# Altium footprint library EMI PCB Shields .PcbLib: 3 footprints
Each footprint in its own frame and in the unit in brackets; x right, y up, seen from the top. Pads: shape width x height; smd on the part's side, far side on the other; paste and mask are expansions set on the pad; w line width, h text height; cw(c..) or ccw(c..) is an arc to the next point about the centre after c.
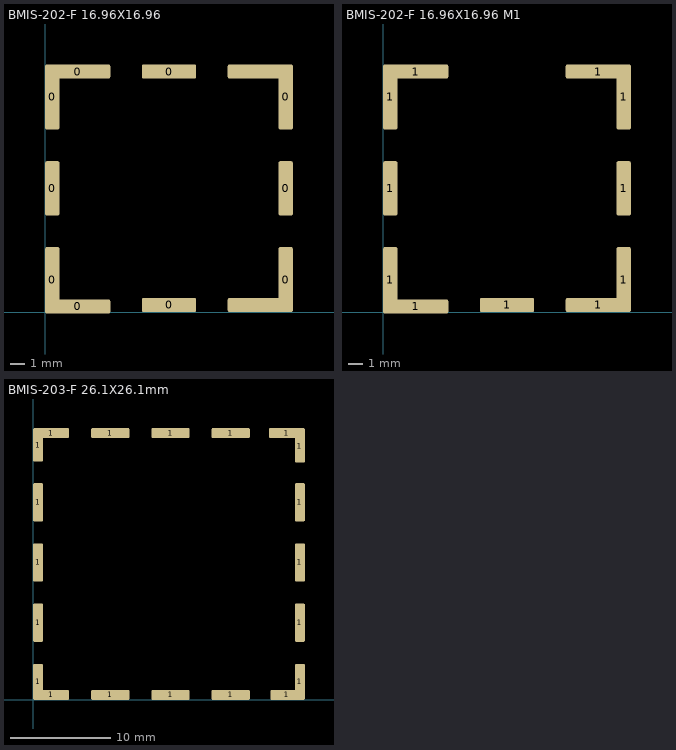
[diagram p0: the footprints below, top view; thin cyan lines are the x and y axes]

## BMIS-202-F 16.96X16.96 [mm] "BMI-S-202-F 16.96X16.96"
height 4
pads (12):
  rrect25% 1x4.55 smd: 0(0.5,2.275) 0(0.5,15.025) 0(16.8,2.275) 0(16.8,15.025)
  rrect25% 1x3.8 smd: 0(0.5,8.645) 0(16.8,8.645)
  rrect25% 4.55x1 smd: 0(2.275,0.4) 0(2.275,16.8) ""(15.025,0.5) ""(15.025,16.8)
  rrect25% 3.8x1 smd: 0(8.65,0.5) 0(8.65,16.8)

## BMIS-202-F 16.96X16.96 M1 [mm] "BMIS-202-F 16.96X16.96 M1"
height 4
pads (11):
  rrect25% 1x4.55 smd: 1(0.5,2.275) 1(0.5,15.025) 1(16.8,2.275) 1(16.8,15.025)
  rrect25% 1x3.8 smd: 1(0.5,8.645) 1(16.8,8.645)
  rrect25% 4.55x1 smd: 1(2.275,0.4) 1(2.275,16.8) 1(15.025,0.5) 1(15.025,16.8)
  rrect25% 3.8x1 smd: 1(8.65,0.5)

## BMIS-203-F 26.1X26.1mm [mm] "BMIS-203-C  26.1mm"
height 5.08
pads (20):
  rrect25% 1x3.57 smd: 1(0.5,1.8) 1(26.6,1.8)
  rrect25% 1x3.8 smd: 1(0.5,7.7) 1(0.5,13.7) 1(0.5,19.7) 1(26.6,7.7) 1(26.6,13.7) 1(26.6,19.7)
  rrect25% 1x3.27 smd: 1(0.5,25.4) 1(26.6,25.3)
  rrect25% 3.57x1 smd: 1(1.8,0.5) 1(1.8,26.6) 1(25.3,26.6)
  rrect25% 3.8x1 smd: 1(7.7,0.5) 1(7.7,26.6) 1(13.7,0.5) 1(13.7,26.6) 1(19.7,0.5) 1(19.7,26.6)
  rrect25% 3.27x1 smd: 1(25.3,0.5)